# Altium schematic symbol library zynq.SchLib: 70 symbols
Pins are listed as number, name and electrical type; pins without a type are passive.

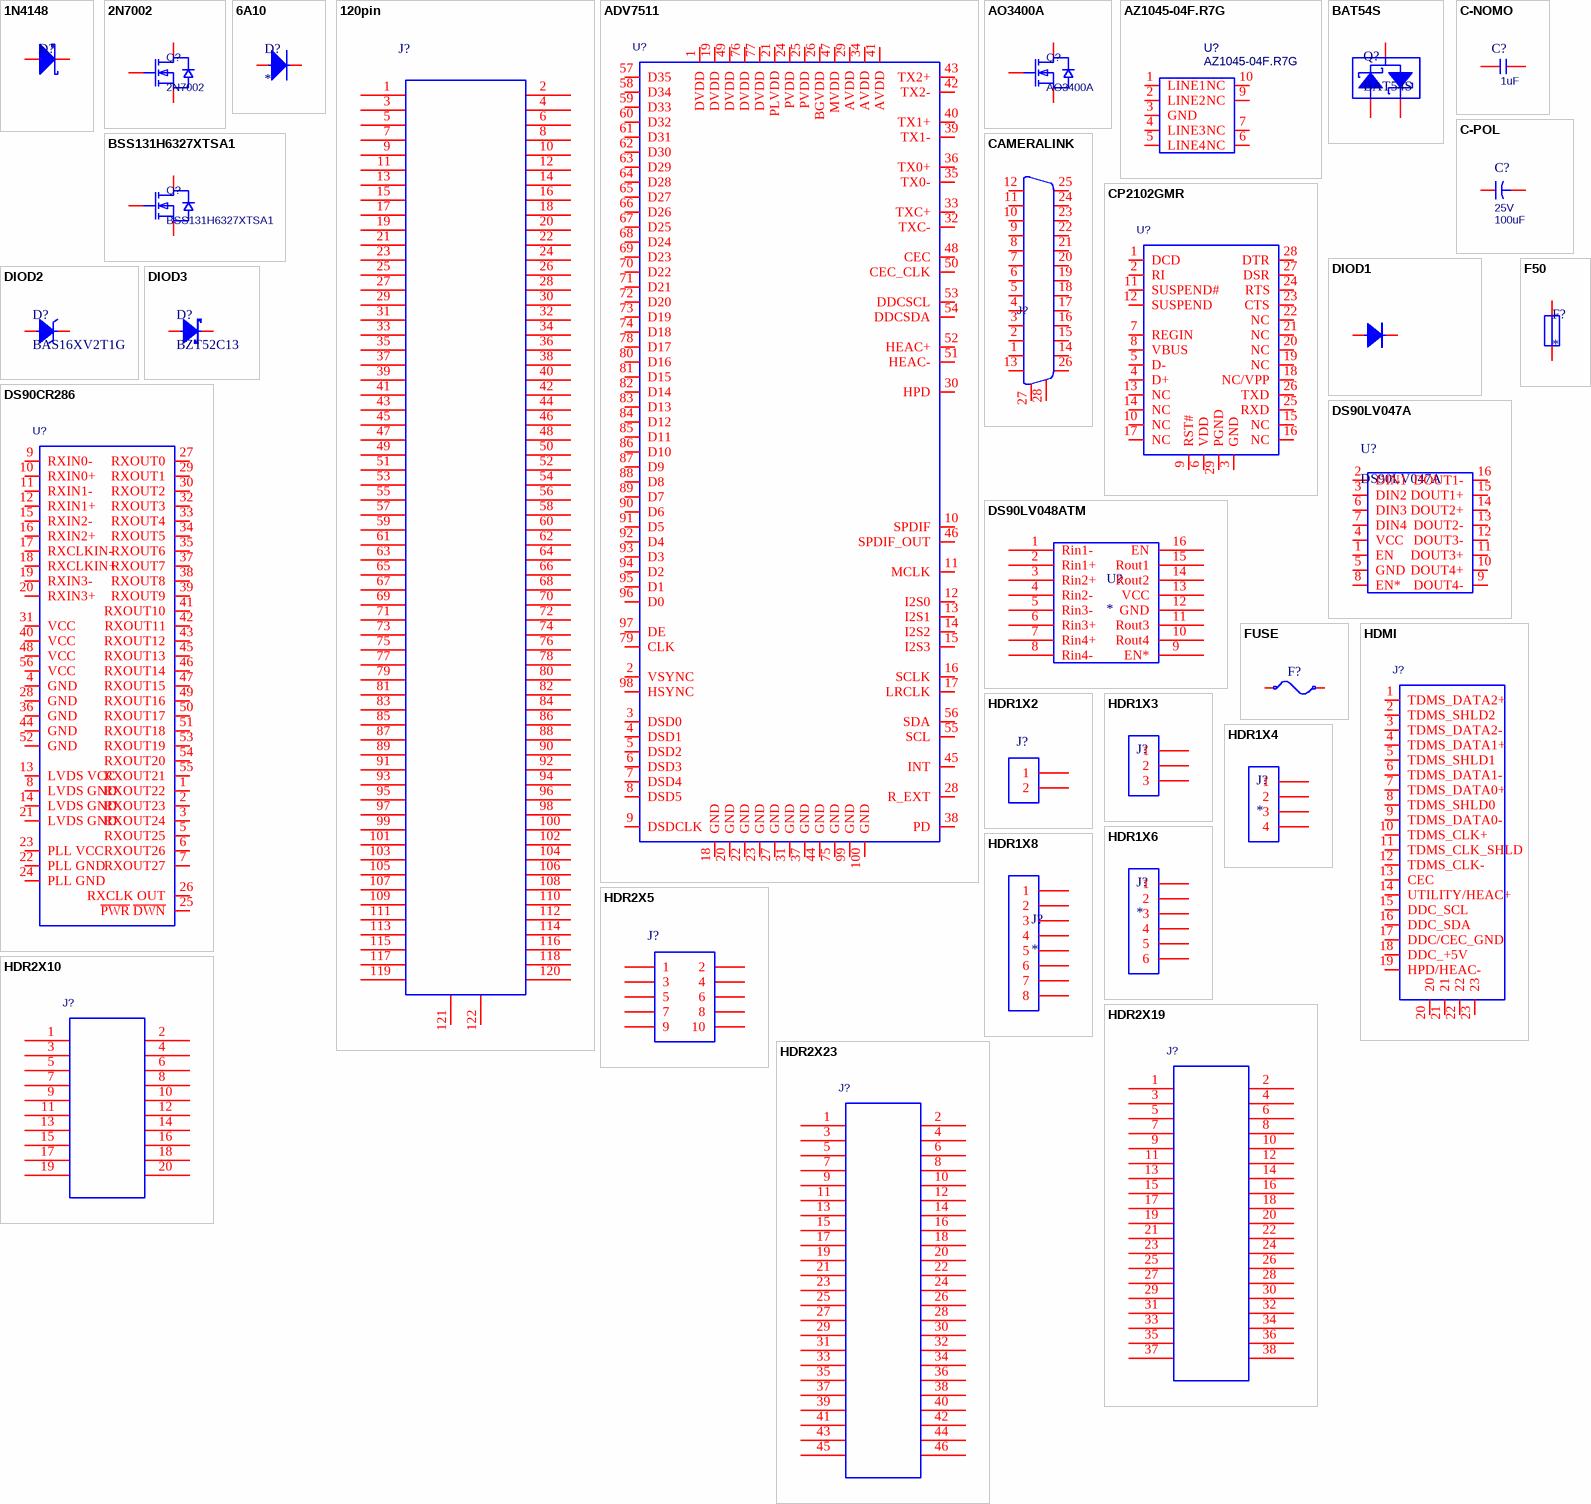
[diagram p0: symbols 1N4148 to HDR2X23]

## 1N4148
designator D?
Silicon RF Schottky Diode for Mixer Applications in the VHF/UHF Range; Note: Pin 2 is not connected and not drawn.; Published: 21-Mar-2003; LatestRevisionDate: 29-May-2009; LatestRevisionNote: IPC-7351 Footprint Added.; DatasheetVersion: Oct-1999; PackageVersion: Sep-2001; PackageReference: SOT-23; Publisher: Altium Limited; PackageDescription: 3-Pin SOT-23 Package 0.95 mm Pitch, 2.5 mm Lead Span; ComponentLink1Description: Manufacturer Link; ComponentLink1URL: http://www.infineon.com/; ComponentLink2Description: Datasheet; ComponentLink2URL: http://www.infineon.com/upload/Document/cmc_upload/documents/009/363/bat17series.pdf
footprint 1N4148 (稳压二极管，高速开关二极管)
pins: 1 A, 3 K

## 2N7002
designator Q?
Supplier 1: LCSC; Supplier Part Number 1: C8545
footprint 2N7002 (SOT23, 3-Leads, Body 2.90x2.45mm, Pitch 0.95mm, IPC High Density)
pins: D, G, S

## 6A10
designator D?
footprint 6A10 (整流二极管)
pins: 1, 2

## 120pin
designator J?
footprint AXK620337YG
pins: 1, 2, 3, 4, 5, 6, 7, 8, 9, 10, 11, 12, 13, 14, 15, 16, 17, 18, 19, 20, 21, 22, 23, 24, 25, 26, 27, 28, 29, 30, 31, 32, 33, 34, 35, 36, 37, 38, 39, 40, 41, 42, 43, 44, 45, 46, 47, 48, 49, 50, 51, 52, 53, 54, 55, 56, 57, 58, 59, 60, 61, 62, 63, 64, 65, 66, 67, 68, 69, 70, 71, 72, 73, 74, 75, 76, 77, 78, 79, 80, 81, 82, 83, 84, 85, 86, 87, 88, 89, 90, 91, 92, 93, 94, 95, 96, 97, 98, 99, 100, 101, 102, 103, 104, 105, 106, 107, 108, 109, 110, 111, 112, 113, 114, 115, 116, 117, 118, 119, 120, 121, 122

## ADV7511
designator U?  (value not drawn)
footprint ADV7511 (TSQFP, 100-Leads, Body 14.00x14.00mm, Pitch 0.50mm, IPC High Density)
pins: 1 DVDD, 2 VSYNC, 3 DSD0, 4 DSD1, 5 DSD2, 6 DSD3, 7 DSD4, 8 DSD5, 9 DSDCLK, 10 SPDIF, 11 MCLK, 12 I2S0, 13 I2S1, 14 I2S2, 15 I2S3, 16 SCLK, 17 LRCLK, 18 GND, 19 DVDD, 20 GND, 21 PLVDD, 22 GND, 23 GND, 24 PVDD, 25 PVDD, 26 BGVDD, 27 GND, 28 R_EXT, 29 AVDD, 30 HPD, 31 GND, 32 TXC-, 33 TXC+, 34 AVDD, 35 TX0-, 36 TX0+, 37 GND, 38 PD, 39 TX1-, 40 TX1+, 41 AVDD, 42 TX2-, 43 TX2+, 44 GND, 45 INT, 46 SPDIF_OUT, 47 MVDD, 48 CEC, 49 DVDD, 50 CEC_CLK, 51 HEAC-, 52 HEAC+, 53 DDCSCL, 54 DDCSDA, 55 SCL, 56 SDA, 57 D35, 58 D34, 59 D33, 60 D32, 61 D31, 62 D30, 63 D29, 64 D28, 65 D27, 66 D26, 67 D25, 68 D24, 69 D23, 70 D22, 71 D21, 72 D20, 73 D19, 74 D18, 75 GND, 76 DVDD, 77 DVDD, 78 D17, 79 CLK, 80 D16, 81 D15, 82 D14, 83 D13, 84 D12, 85 D11, 86 D10, 87 D9, 88 D8, 89 D7, 90 D6, 91 D5, 92 D4, 93 D3, 94 D2, 95 D1, 96 D0, 97 DE, 98 HSYNC, 99 GND, 100 GND

## AO3400A
designator Q?
Supplier 1: LCSC; Supplier Part Number 1: C20917
footprint AO3400A (SOT23, 3-Leads, Body 2.90x2.45mm, Pitch 0.95mm, IPC High Density)
pins: D, G, S

## AZ1045-04F.R7G
designator U?
BOM_Manufacturer: AMAZING; Contributor: LCSC; BOM_Paste Type: expand; BOM_Supplier: LCSC; BOM_Supplier Part: C356811; BOM_Manufacturer Part: AZ1045-04F.R7G; spicePre: D; spiceSymbolName: AZ1045-04F.R7G
footprint AZ1045
pins: 1 LINE1, 2 LINE2, 3 GND, 4 LINE3, 5 LINE4, 6 NC, 7 NC, 9 NC, 10 NC

## BAT54S
designator Q?
footprint SOT-23
pins: 1, 2, 3

## BSS131H6327XTSA1
designator Q?
Supplier 1: LCSC; Supplier Part Number 1: C151498
footprint BSS131H6327XTSA1 (SOT23, 3-Leads, Body 2.90x2.45mm, Pitch 0.95mm, IPC High Density)
pins: D, G, S

## C-NOMO
designator C?  value 1uF
voltage: 25V; precision: 5%
footprint C0603
footprint C0402
footprint C0805
pins: 1, 2

## C-POL
designator C?  value 100uF  voltage: 25V
footprint C7343 (CASE-E tan cap)
footprint C_18_21 (Aluminum Electrolytic Capacitor, Body 19.00x19.00x21.00mm, IPC High Density)
footprint C_10_10R2
pins: 1 S, 2

## CAMERALINK
designator J?  (value not drawn)
footprint CAMERALINK
pins: 1, 2, 3, 4, 5, 6, 7, 8, 9, 10, 11, 12, 13, 14, 15, 16, 17, 18, 19, 20, 21, 22, 23, 24, 25, 26, 27, 28

## CP2102GMR
designator U?  (value not drawn)
footprint CP2102GMR (QFN, 28-Leads, Body 5.00x5.00mm, Pitch 0.50mm, Thermal Pad 3.20x3.20mm, IPC High Density)
pins: 1 DCD, 2 RI, 3 GND, 4 D+, 5 D-, 6 VDD, 7 REGIN, 8 VBUS, 9 RST#, 10 NC, 11 SUSPEND#, 12 SUSPEND, 13 NC, 14 NC, 15 NC, 16 NC, 17 NC, 18 NC/VPP, 19 NC, 20 NC, 21 NC, 22 NC, 23 CTS, 24 RTS, 25 RXD, 26 TXD, 27 DSR, 28 DTR, 29 PGND

## DIOD1
designator D?, comment 1N4148
footprint 1N4148 (稳压二极管，高速开关二极管)
footprint DO-214AC
pins: 1, 2

## DIOD2
designator D?, comment BAS16XV2T1G
footprint SOD-523
footprint DO-214AC
pins: 1, 2

## DIOD3
designator D?, comment BZT52C13
footprint DO-214AC
footprint SOD-123
pins: 1, 2

## DS90CR286
designator U?  (value not drawn)
footprint DS90CR286
pins: 1 RXOUT22, 2 RXOUT23, 3 RXOUT24, 4 GND, 5 RXOUT25, 6 RXOUT26, 7 RXOUT27, 8 LVDS GND, 9 RXIN0-, 10 RXIN0+, 11 RXIN1-, 12 RXIN1+, 13 LVDS VCC, 14 LVDS GND, 15 RXIN2-, 16 RXIN2+, 17 RXCLKIN-, 18 RXCLKIN+, 19 RXIN3-, 20 RXIN3+, 21 LVDS GND, 22 PLL GND, 23 PLL VCC, 24 PLL GND, 25 ~{PWR} ~{DWN}, 26 RXCLK OUT, 27 RXOUT0, 28 GND, 29 RXOUT1, 30 RXOUT2, 31 VCC, 32 RXOUT3, 33 RXOUT4, 34 RXOUT5, 35 RXOUT6, 36 GND, 37 RXOUT7, 38 RXOUT8, 39 RXOUT9, 40 VCC, 41 RXOUT10, 42 RXOUT11, 43 RXOUT12, 44 GND, 45 RXOUT13, 46 RXOUT14, 47 RXOUT15, 48 VCC, 49 RXOUT16, 50 RXOUT17, 51 RXOUT18, 52 GND, 53 RXOUT19, 54 RXOUT20, 55 RXOUT21, 56 VCC

## DS90LV047A
designator U?
footprint DS90LV047
pins: 1 EN, 2 DIN1, 3 DIN2, 4 VCC, 5 GND, 6 DIN3, 7 DIN4, 8 EN*, 9 DOUT4-, 10 DOUT4+, 11 DOUT3+, 12 DOUT3-, 13 DOUT2-, 14 DOUT2+, 15 DOUT1+, 16 DOUT1-

## DS90LV048ATM
designator U?
footprint DS90LV048
pins: 1 Rin1-, 2 Rin1+, 3 Rin2+, 4 Rin2-, 5 Rin3-, 6 Rin3+, 7 Rin4+, 8 Rin4-, 9 EN*, 10 Rout4, 11 Rout3, 12 GND, 13 VCC, 14 Rout2, 15 Rout1, 16 EN

## F50
designator F?
footprint F-TH
footprint F-TH2
footprint F-TH3
pins: 1, 2

## FUSE
designator F?
footprint F1812 (FUSE_1812)
pins: 1, 2

## HDMI
designator J?  (value not drawn)
footprint HDMI_A_TYPE
pins: 1 TDMS_DATA2+, 2 TDMS_SHLD2, 3 TDMS_DATA2-, 4 TDMS_DATA1+, 5 TDMS_SHLD1, 6 TDMS_DATA1-, 7 TDMS_DATA0+, 8 TDMS_SHLD0, 9 TDMS_DATA0-, 10 TDMS_CLK+, 11 TDMS_CLK_SHLD, 12 TDMS_CLK-, 13 CEC, 14 UTILITY/HEAC+, 15 DDC_SCL, 16 DDC_SDA, 17 DDC/CEC_GND, 18 DDC_+5V, 19 HPD/HEAC-, 20, 21, 22, 23

## HDR1X2
designator J?
footprint HDR1X2 (Connector; Header; 5x2 Position)
footprint KF301-5.0-2P (5.0间距螺钉端子)
footprint XH-2A (XH2.54接线端子2P)
pins: 1, 2

## HDR1X3
designator J?
footprint HDR1X3 (Connector; Header; 5x2 Position)
footprint KF301-5.0-3P
pins: 1, 2, 3

## HDR1X4
designator J?
footprint KF301-5.0-4P
pins: 1, 2, 3, 4

## HDR1X6
designator J?
footprint KF301-5.0-6P
pins: 1, 2, 3, 4, 5, 6

## HDR1X8
designator J?
footprint HDR1X8
footprint KF15EDGK-3.81-8P
pins: 1, 2, 3, 4, 5, 6, 7, 8

## HDR2X5
designator J?
footprint HDR2X5 (Connector; Header; 5x2 Position)
footprint HDR2X5-NJ
pins: 1, 2, 3, 4, 5, 6, 7, 8, 9, 10

## HDR2X10
designator J?
footprint HDR2X10-NJ
pins: 1, 2, 3, 4, 5, 6, 7, 8, 9, 10, 11, 12, 13, 14, 15, 16, 17, 18, 19, 20

## HDR2X19
designator J?
footprint HDR2X19-1.27-SMD
pins: 1, 2, 3, 4, 5, 6, 7, 8, 9, 10, 11, 12, 13, 14, 15, 16, 17, 18, 19, 20, 21, 22, 23, 24, 25, 26, 27, 28, 29, 30, 31, 32, 33, 34, 35, 36, 37, 38

## HDR2X23
designator J?
footprint HDR2X23-1.27-SMD
pins: 1, 2, 3, 4, 5, 6, 7, 8, 9, 10, 11, 12, 13, 14, 15, 16, 17, 18, 19, 20, 21, 22, 23, 24, 25, 26, 27, 28, 29, 30, 31, 32, 33, 34, 35, 36, 37, 38, 39, 40, 41, 42, 43, 44, 45, 46

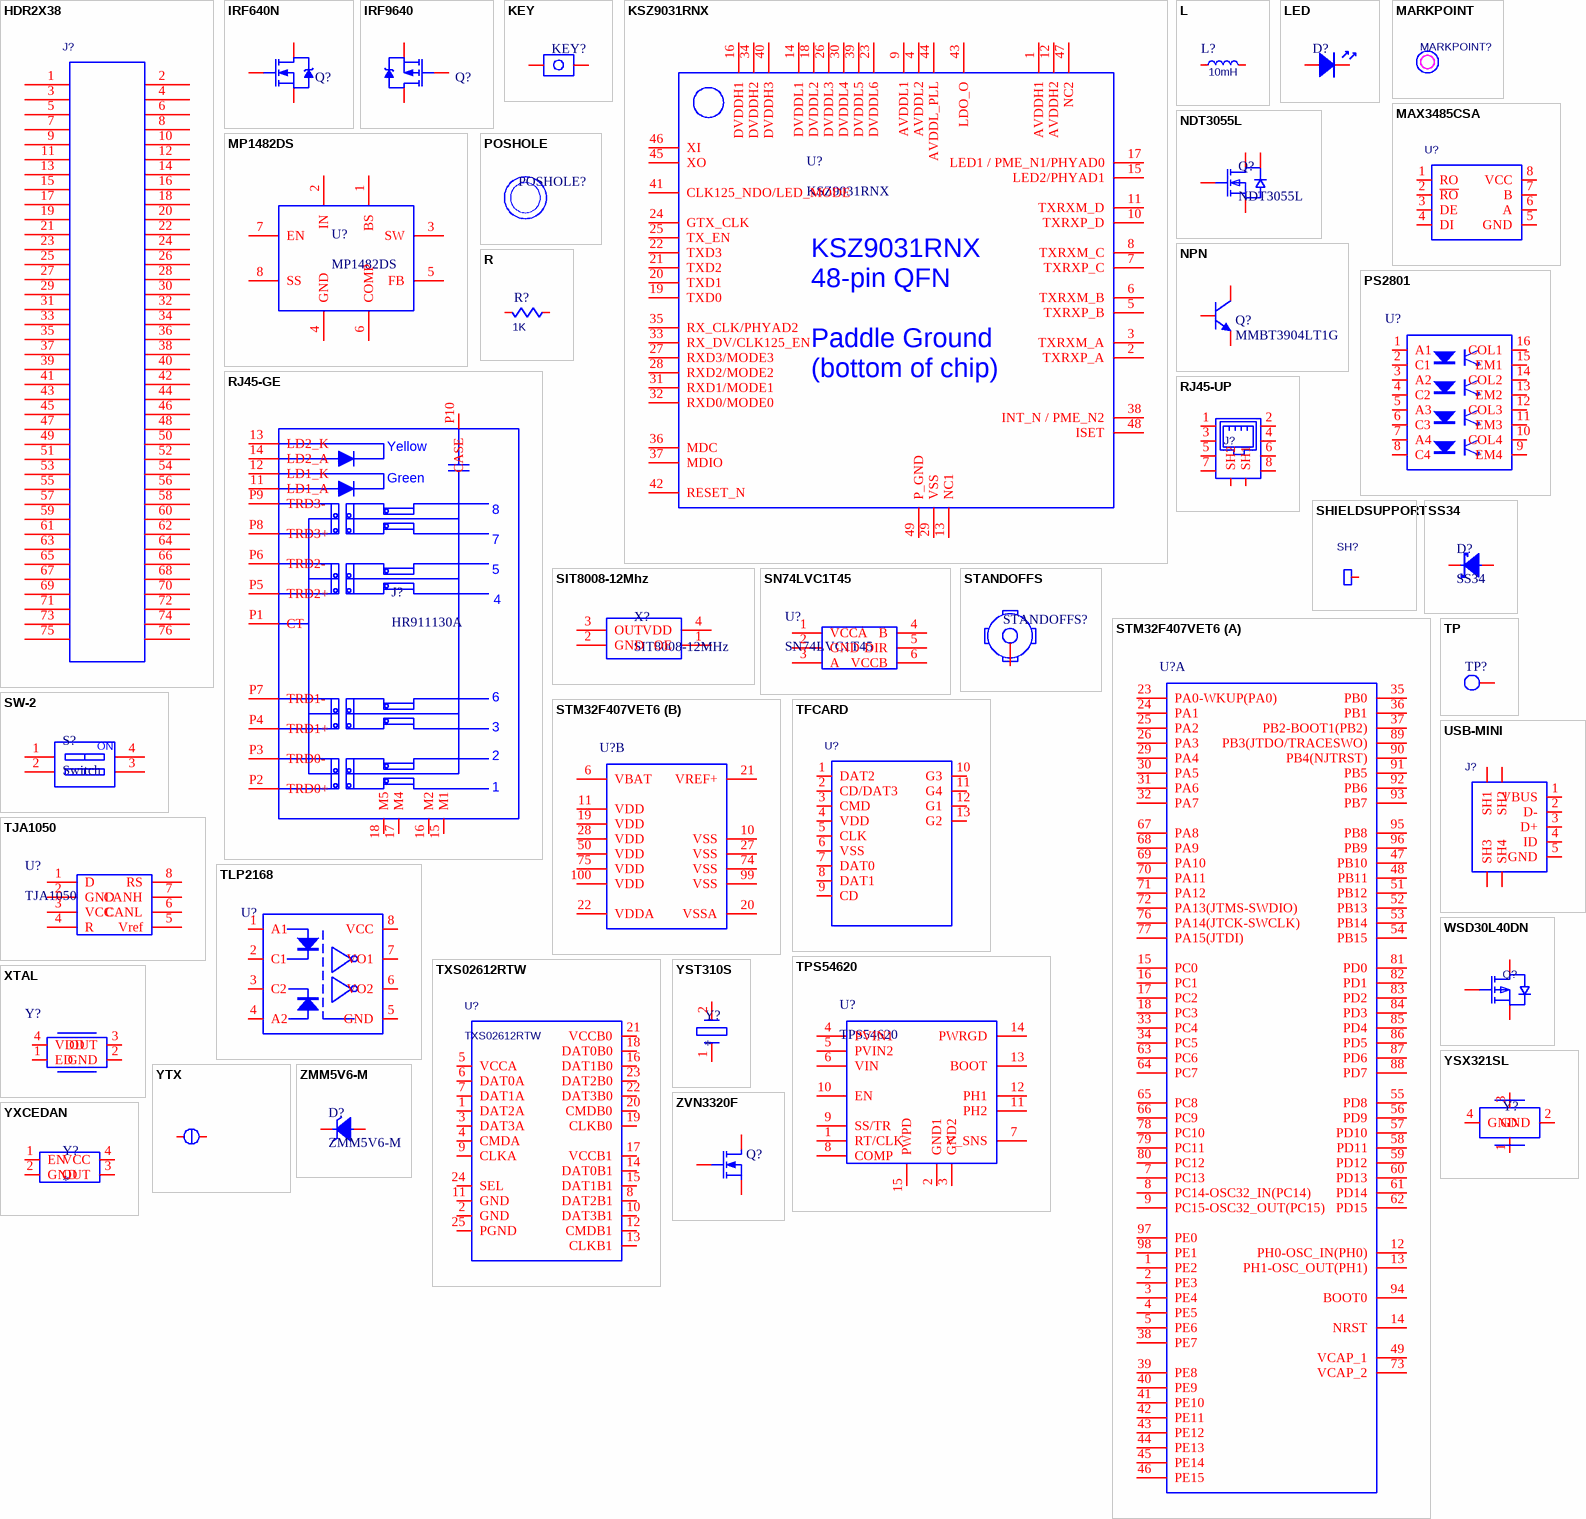
[diagram p1: symbols HDR2X38 to ZVN3320F]

## HDR2X38
designator J?
footprint HDR2X38-1.27-SMD
pins: 1, 2, 3, 4, 5, 6, 7, 8, 9, 10, 11, 12, 13, 14, 15, 16, 17, 18, 19, 20, 21, 22, 23, 24, 25, 26, 27, 28, 29, 30, 31, 32, 33, 34, 35, 36, 37, 38, 39, 40, 41, 42, 43, 44, 45, 46, 47, 48, 49, 50, 51, 52, 53, 54, 55, 56, 57, 58, 59, 60, 61, 62, 63, 64, 65, 66, 67, 68, 69, 70, 71, 72, 73, 74, 75, 76

## IRF640N
designator Q?
N-Channel Power MOSFET; Note: Pin 2 is electrically connected to pin 4.; Published: 8-Jun-2000; LatestRevisionDate: 17-Jul-2002; LatestRevisionNote: Re-released for DXP Platform.; DatasheetVersion: PD-9.814; PackageVersion: Feb-1997; PackageReference: TO-220AB; Publisher: Altium Limited; PackageDescription: TO, Thru-Hole, Vertical, Heatsink Mounted; 3 In-Line Leads; Pitch 2.54 mm; ComponentLink1Description: Manufacturer Link; ComponentLink1URL: http://www.irf.com/
footprint TO-220AB (TO, Thru-Hole, Vertical, Heatsink Mounted; 3 In-Line Leads; Pitch 2.54 mm)
pins: 1 G, 2 D, 3 S

## IRF9640
designator Q?
P-Channel Power MOSFET; Note: Pin 4 not drawn and electrically connected to Pin 2.; Published: 8-Jun-2000; LatestRevisionDate: 17-Jul-2002; LatestRevisionNote: Re-released for DXP Platform.; DatasheetVersion: PD-9.390D; PackageVersion: Feb-1997; PackageReference: TO-220AB; Publisher: Altium Limited; PackageDescription: TO, Thru-Hole, Vertical, Heatsink Mounted; 3 In-Line Leads; Pitch 2.54 mm; ComponentLink1Description: Manufacturer Link; ComponentLink1URL: http://www.irf.com/
footprint TO-220AB (TO, Thru-Hole, Vertical, Heatsink Mounted; 3 In-Line Leads; Pitch 2.54 mm)
simulation model IRF9510 (Spice Subcircuit)
pins: 1 G, 2 D, 3 S

## KEY
designator KEY?
footprint KEY735SO
pins: 1, 2

## KSZ9031RNX
designator U?
footprint KSZ9031 (QFN, 48-Leads, Body 7.00x7.00mm, Pitch 0.50mm, Thermal Pad 5.10x5.10mm, IPC High Density)
pins: 1 AVDDH1, 2 TXRXP_A, 3 TXRXM_A, 4 AVDDL2, 5 TXRXP_B, 6 TXRXM_B, 7 TXRXP_C, 8 TXRXM_C, 9 AVDDL1, 10 TXRXP_D, 11 TXRXM_D, 12 AVDDH2, 13 NC1, 14 DVDDL1, 15 LED2/PHYAD1, 16 DVDDH1, 17 LED1 / PME_N1/PHYAD0, 18 DVDDL2, 19 TXD0, 20 TXD1, 21 TXD2, 22 TXD3, 23 DVDDL6, 24 GTX_CLK, 25 TX_EN, 26 DVDDL3, 27 RXD3/MODE3, 28 RXD2/MODE2, 29 VSS, 30 DVDDL4, 31 RXD1/MODE1, 32 RXD0/MODE0, 33 RX_DV/CLK125_EN, 34 DVDDH2, 35 RX_CLK/PHYAD2, 36 MDC, 37 MDIO, 38 INT_N / PME_N2, 39 DVDDL5, 40 DVDDH3, 41 CLK125_NDO/LED_MODE, 42 RESET_N, 43 LDO_O, 44 AVDDL_PLL, 45 XO, 46 XI, 47 NC2, 48 ISET, 49 P_GND
text: KSZ9031RNX / 48-pin QFN / Paddle Ground / (bottom of chip)

## L
designator L?  value 10mH
Code_IEC: 1005; Published: 8-Jun-2000; LatestRevisionDate: 29-May-2009; LatestRevisionNote: IPC-7351 Footprint Added.; PackageReference: 0402-A; Publisher: Altium Limited; PackageDescription: Chip Inductor; Code_JEITA: 0402
footprint L0603
footprint L0805 (C0805)
footprint FXL0624
pins: 1, 2

## LED
designator D?
footprint LED0603 (Chip LED, 2-Leads, Body 1.60x0.80mm, IPC High Density)
pins: 1, 2

## MARKPOINT
designator MARKPOINT?
footprint MARKPOINT-1.0

## MAX3485CSA
designator U?  (value not drawn)
footprint MAX3485CSA
pins: 1 RO, 2 ~{RO}, 3 DE, 4 DI, 5 GND, 6 A, 7 B, 8 VCC

## MP1482DS
designator U?
footprint MP1482
pins: 1 BS, 2 IN, 3 SW, 4 GND, 5 FB, 6 COMP, 7 EN, 8 SS

## NDT3055L
designator Q?
footprint SOT-223 (SOT223, 4-Leads, Body 6.50x7.00mm (avg), Pitch 2.30mm, IPC High Density)
pins: 1 G, 2 D, 3 S, 4 D

## NPN
designator Q?, comment MMBT3904LT1G
footprint SOT-23
pins: 1 B, 2 E, 3 C

## POSHOLE
designator POSHOLE?
footprint POSHOLE-3.2 (3.2mm hole)

## PS2801
designator U?  (value not drawn)
footprint PS2801 (SOP, 16-Leads, Body 10.28x4.40mm, Pitch 1.27mm, IPC High Density)
pins: 1 A1, 2 C1, 3 A2, 4 C2, 5 A3, 6 C3, 7 A4, 8 C4, 9 EM4, 10 COL4, 11 EM3, 12 COL3, 13 EM2, 14 COL2, 15 EM1, 16 COL1

## R
designator R?  value 1K
precision: 1%
footprint R0603
footprint R0402
footprint R1812
footprint R0805 (Chip Resistor, 2-Leads, Body 2.00x1.25mm, IPC High Density)
footprint R2512 (Chip Resistor, 2-Leads, Body 6.35x3.20mm, IPC High Density)
footprint R1206 (Chip Resistor, 2-Leads, Body 3.10x1.58mm, IPC High Density)
pins: 1, 2

## RJ45-GE
designator J?, comment HR911130A
footprint RJ45-GE
pins: 11 LD1_A, 12 LD1_K, 13 LD2_K, 14 LD2_A, 15 M1, 16 M2, 17 M4, 18 M5, P1 CT, P2 TRD0+, P3 TRD0-, P4 TRD1+, P5 TRD2+, P6 TRD2-, P7 TRD1-, P8 TRD3+, P9 TRD3-, P10 CASE
text: Yellow; Green; 8; 7; 5; 4; 6; 3; 2; 1

## RJ45-UP
designator J?, comment GE-8  (value not drawn)
footprint RJ45-UP
pins: 1, 2, 3, 4, 5, 6, 7, 8, SH1, SH2

## SHIELDSUPPORT
designator SH?  (value not drawn)
footprint SHIELDSUPPORT1 (YS0073A1 L4.4xW0.8xH0.8 0.2)
pins: SH

## SIT8008-12Mhz
designator X?, comment SIT8008-12MHz
footprint OSC3225
pins: 1 OE, 2 GND, 3 OUT, 4 VDD

## SN74LVC1T45
designator U?
footprint SN74LVC1T45
pins: 1 VCCA, 2 GND, 3 A, 4 B, 5 DIR, 6 VCCB

## SS34
designator D?
Supplier 1: LCSC; Supplier Part Number 1: C8678
footprint SS34 (Molded Diode, 2-Leads, Body 4.25x2.67mm, IPC High Density)
pins: 1, 2

## STANDOFFS
designator STANDOFFS?
footprint STANDOFFS-5-2.5 (外径5 台阶外径2.5)
pins: 0

## STM32F407VET6
designator U?
ARM Cortex-M4 32-bit MCU+FPU, 210 DMIPS, 512 kB Flash, 192 kB Internal RAM, 82 I/Os, 100-pin LQFP, -40 to 85 degC, Tray; Manufacturer: STMicroelectronics; PartNumber: STM32F407VET6; D/A Converter: 2x12-bit; FLASH Size (Prog) (kB): 512; I/Os (High Current): 82; Internal RAM Size (kB): 192; Operating Frequency(F) (Processor speed) (MHz): 168; Supply Voltage(Vcc) max (V): 3.6; Supply Voltage(Vcc) min (V): 1.8; DatasheetVersion: Rev. 4; PackageVersion: Rev. 1, 06/2013; PackageReference: LQFP100; PackageDescription: 100-Pin Low Profile Quad Flat Package, 14 x 14 mm Body, 0.5 mm Pitch; Supplier 1: Digi-Key; Supplier Part Number 1: 497-12075-ND; Supplier 2: Farnell; Supplier Part Number 2: 2064367; Supplier 3: Newark; Supplier Part Number 3: 73T2332; Supplier 4: Mouser; Supplier Part Number 4: 511-STM32F407VET6; Core: ARM Cortex-M4; Packing: Tray; Mounting Technology: Surface Mount; ComponentLink1Description: Manufacturer URL; ComponentLink1URL: http://www.st.com/web/en/home.html; ComponentLink2Description: Datasheet; ComponentLink2URL: http://www.st.com/st-web-ui/static/active/en/resource/technical/document/datasheet/DM00037051.pdf; ComponentLink3Description: Package Specification; ComponentLink3URL: http://www.st.com/st-web-ui/static/active/en/resource/technical/document/data_brief/DM00071938.pdf
footprint STM32F407VET6
part A pins: 1 PE2 "PE2/TRACECLK/FSMC_A23/ETH_MII_TXD3/EVENTOUT", 2 PE3 "PE3/TRACED0/FSMC_A19/EVENTOUT", 3 PE4 "PE4/TRACED1/FSMC_A20/DCMI_D4/EVENTOUT", 4 PE5 "PE5/TRACED2/FSMC_A21/TIM9_CH1/DCMI_D6/EVENTOUT", 5 PE6 "PE6/TRACED3/FSMC_A22/TIM9_CH2/DCMI_D7/EVENTOUT", 7 PC13 "PC13/EVENTOUT/RTC_OUT,RTC_TAMP1,RTC_TS", 8 PC14-OSC32_IN(PC14) "PC14-OSC32_IN(PC14)/EVENTOUT/OSC32_IN", 9 PC15-OSC32_OUT(PC15) "PC15-OSC32_OUT(PC15)/EVENTOUT/OSC32_OUT", 12 PH0-OSC_IN(PH0) "PH0-OSC_IN(PH0)/EVENTOUT/OSC_IN", 13 PH1-OSC_OUT(PH1) "PH1-OSC_OUT(PH1)/EVENTOUT/OSC_OUT", 14 NRST, 15 PC0 "PC0/OTG_HS_ULPI_STP/EVENTOUT/ADC123_IN10", 16 PC1 "PC1/ETH_MDC/EVENTOUT/ADC123_IN11", 17 PC2 "PC2/SPI2_MISO/OTG_HS_ULPI_DIR/ETH_MII_TXD2/I2S2ext_SD/EVENTOUT/ADC123_IN12", 18 PC3 "PC3/SPI2_MOSI/I2S2_SD/OTG_HS_ULPI_NXT/ETH_MII_TX_CLK/EVENTOUT/ADC123_IN13", 23 PA0-WKUP(PA0) "PA0-WKUP(PA0)/USART2_CTS/UART4_TX/ETH_MII_CRS/TIM2_CH1_ETR/TIM5_CH1/TIM8_ETR/EVENTOUT/ADC123_IN0/WKUP", 24 PA1 "PA1/USART2_RTS/UART4_RX/ETH_RMII_REF_CLK/ETH_MII_RX_CLK/TIM5_CH2/TIM2_CH2/EVENTOUT/ADC123_IN1", 25 PA2 "PA2/USART2_TX/TIM5_CH3/TIM9_CH1/TIM2_CH3/ETH_MDIO/EVENTOUT/ADC123_IN2", 26 PA3 "PA3/USART2_RX/TIM5_CH4/TIM9_CH2/TIM2_CH4/OTG_HS_ULPI_D0/ETH_MII_COL/EVENTOUT/ADC123_IN3", 29 PA4 "PA4/SPI1_NSS/SPI3_NSS/USART2_CK/DCMI_HSYNC/OTG_HS_SOF/I2S3_WS/EVENTOUT/ADC12_IN4/DAC_OUT1", 30 PA5 "PA5/SPI1_SCK/OTG_HS_ULPI_CK/TIM2_CH1_ETR/TIM8_CH1N/EVENTOUT/ADC12_IN5/DAC_OUT2", 31 PA6 "PA6/SPI1_MISO/TIM8_BKIN/TIM13_CH1/DCMI_PIXCLK/TIM3_CH1/TIM1_BKIN/EVENTOUT/ADC12_IN6", 32 PA7 "PA7/SPI1_MOSI/TIM8_CH1N/TIM14_CH1/TIM3_CH2/ETH_MII_RX_DV/TIM1_CH1N/ETH_RMII_CRS_DV/EVENTOUT/ADC12_IN7", 33 PC4 "PC4/ETH_RMII_RX_D0/ETH_MII_RX_D0/EVENTOUT/ADC12_IN14", 34 PC5 "PC5/ETH_RMII_RX_D1/ETH_MII_RX_D1/EVENTOUT/ADC12_IN15", 35 PB0 "PB0/TIM3_CH3/TIM8_CH2N/OTG_HS_ULPI_D1/ETH_MII_RXD2/TIM1_CH2N/EVENTOUT/ADC12_IN8", 36 PB1 "PB1/TIM3_CH4/TIM8_CH3N/OTG_HS_ULPI_D2/ETH_MII_RXD3/TIM1_CH3N/EVENTOUT/ADC12_IN9", 37 PB2-BOOT1(PB2) "PB2-BOOT1(PB2)/EVENTOUT", 38 PE7 "PE7/FSMC_D4/TIM1_ETR/EVENTOUT", 39 PE8 "PE8/FSMC_D5/TIM1_CH1N/EVENTOUT", 40 PE9 "PE9/FSMC_D6/TIM1_CH1/EVENTOUT", 41 PE10 "PE10/FSMC_D7/TIM1_CH2N/EVENTOUT", 42 PE11 "PE11/FSMC_D8/TIM1_CH2/EVENTOUT", 43 PE12 "PE12/FSMC_D9/TIM1_CH3N/EVENTOUT", 44 PE13 "PE13/FSMC_D10/TIM1_CH3/EVENTOUT", 45 PE14 "PE14/FSMC_D11/TIM1_CH4/EVENTOUT", 46 PE15 "PE15/FSMC_D12/TIM1_BKIN/EVENTOUT", 47 PB10 "PB10/SPI2_SCK/I2S2_CK/I2C2_SCL/USART3_TX/OTG_HS_ULPI_D3/ETH_MII_RX_ER/TIM2_CH3/EVENTOUT", 48 PB11 "PB11/I2C2_SDA/USART3_RX/OTG_HS_ULPI_D4/ETH_RMII_TX_EN/ETH_MII_TX_EN/TIM2_CH4/EVENTOUT", 49 VCAP_1, 51 PB12 "PB12/SPI2_NSS/I2S2_WS/I2C2_SMBA/USART3_CK/TIM1_BKIN/CAN2_RX/OTG_HS_ULPI_D5/ETH_RMII_TXD0/ETH_MII_TXD0/OTG_HS_ID/EVENTOUT", 52 PB13 "PB13/SPI2_SCK/I2S2_CK/USART3_CTS/TIM1_CH1N/CAN2_TX/OTG_HS_ULPI_D6/ETH_RMII_TXD1/ETH_MII_TXD1/EVENTOUT/OTG_HS_VBUS", 53 PB14 "PB14/SPI2_MISO/TIM1_CH2N/TIM12_CH1/OTG_HS_DM/USART3_RTS/TIM8_CH2N/I2S2ext_SD/EVENTOUT", 54 PB15 "PB15/SPI2_MOSI/I2S2_SD/TIM1_CH3N/TIM8_CH3N/TIM12_CH2/OTG_HS_DP/EVENTOUT/RTC_REFIN", 55 PD8 "PD8/FSMC_D13/USART3_TX/EVENTOUT", 56 PD9 "PD9/FSMC_D14/USART3_RX/EVENTOUT", 57 PD10 "PD10/FSMC_D15/USART3_CK/EVENTOUT", 58 PD11 "PD11/FSMC_CLE/FSMC_A16/USART3_CTS/EVENTOUT", 59 PD12 "PD12/FSMC_ALE/FSMC_A17/TIM4_CH1/USART3_RTS/EVENTOUT", 60 PD13 "PD13/FSMC_A18/TIM4_CH2/EVENTOUT", 61 PD14 "PD14/FSMC_D0/TIM4_CH3/EVENTOUT", 62 PD15 "PD15/FSMC_D1/TIM4_CH4/EVENTOUT", 63 PC6 "PC6/I2S2_MCK/TIM8_CH1/SDIO_D6/USART6_TX/DCMI_D0/TIM3_CH1/EVENTOUT", 64 PC7 "PC7/I2S3_MCK/TIM8_CH2/SDIO_D7/USART6_RX/DCMI_D1/TIM3_CH2/EVENTOUT", 65 PC8 "PC8/TIM8_CH3/SDIO_D0/TIM3_CH3/USART6_CK/DCMI_D2/EVENTOUT", 66 PC9 "PC9/I2S_CKIN/MCO2/TIM8_CH4/SDIO_D1/I2C3_SDA/DCMI_D3/TIM3_CH4/EVENTOUT", 67 PA8 "PA8/MCO1/USART1_CK/TIM1_CH1/I2C3_SCL/OTG_FS_SOF/EVENTOUT", 68 PA9 "PA9/USART1_TX/TIM1_CH2/I2C3_SMBA/DCMI_D0/EVENTOUT/OTG_FS_VBUS", 69 PA10 "PA10/USART1_RX/TIM1_CH3/OTG_FS_ID/DCMI_D1/EVENTOUT", 70 PA11 "PA11/USART1_CTS/CAN1_RX/TIM1_CH4/OTG_FS_DM/EVENTOUT", 71 PA12 "PA12/USART1_RTS/CAN1_TX/TIM1_ETR/OTG_FS_DP/EVENTOUT", 72 PA13(JTMS-SWDIO) "PA13(JTMS-SWDIO)/JTMS-SWDIO/EVENTOUT", 73 VCAP_2, 76 PA14(JTCK-SWCLK) "PA14(JTCK-SWCLK)/JTCK-SWCLK/EVENTOUT", 77 PA15(JTDI) "PA15(JTDI)/JTDI/SPI3_NSS/I2S3_WS/TIM2_CH1_ETR/SPI1_NSS/EVENTOUT", 78 PC10 "PC10/SPI3_SCK/I2S3_CK/UART4_TX/SDIO_D2/DCMI_D8/USART3_TX/EVENTOUT", 79 PC11 "PC11/UART4_RX/SPI3_MISO/SDIO_D3/DCMI_D4/USART3_RX/I2S3ext_SD/EVENTOUT", 80 PC12 "PC12/UART5_TX/SDIO_CK/DCMI_D9/SPI3_MOSI/I2S3_SD/USART3_CK/EVENTOUT", 81 PD0 "PD0/FSMC_D2/CAN1_RX/EVENTOUT", 82 PD1 "PD1/FSMC_D3/CAN1_TX/EVENTOUT", 83 PD2 "PD2/TIM3_ETR/UART5_RX/SDIO_CMD/DCMI_D11/EVENTOUT", 84 PD3 "PD3/FSMC_CLK/USART2_CTS/EVENTOUT", 85 PD4 "PD4/FSMC_NOE/USART2_RTS/EVENTOUT", 86 PD5 "PD5/FSMC_NWE/USART2_TX/EVENTOUT", 87 PD6 "PD6/FSMC_NWAIT/USART2_RX/EVENTOUT", 88 PD7 "PD7/USART2_CK/FSMC_NE1/FSMC_NCE2/EVENTOUT", 89 PB3(JTDO/TRACESWO) "PB3(JTDO/TRACESWO)/JTDO/TRACESWO/SPI3_SCK/I2S3_CK/TIM2_CH2/SPI1_SCK/EVENTOUT", 90 PB4(NJTRST) "PB4(NJTRST)/NJTRST/SPI3_MISO/TIM3_CH1/SPI1_MISO/I2S3ext_SD/EVENTOUT", 91 PB5 "PB5/I2C1_SMBA/CAN2_RX/OTG_HS_ULPI_D7/ETH_PPS_OUT/TIM3_CH2/SPI1_MOSI/SPI3_MOSI/DCMI_D10/I2S3_SD/EVENTOUT", 92 PB6 "PB6/I2C1_SCL/TIM4_CH1/CAN2_TX/DCMI_D5/USART1_TX/EVENTOUT", 93 PB7 "PB7/I2C1_SDA/FSMC_NL/DCMI_VSYNC/USART1_RX/TIM4_CH2/EVENTOUT", 94 BOOT0 "BOOT0/VPP", 95 PB8 "PB8/TIM4_CH3/SDIO_D4/TIM10_CH1/DCMI_D6/ETH_MII_TXD3/I2C1_SCL/CAN1_RX/EVENTOUT", 96 PB9 "PB9/SPI2_NSS/I2S2_WS/TIM4_CH4/TIM11_CH1/SDIO_D5/DCMI_D7/I2C1_SDA/CAN1_TX/EVENTOUT", 97 PE0 "PE0/TIM4_ETR/FSMC_NBL0/DCMI_D2/EVENTOUT", 98 PE1 "PE1/FSMC_NBL1/DCMI_D3/EVENTOUT"
part B pins: 6 VBAT, 10 VSS, 11 VDD, 19 VDD, 20 VSSA, 21 VREF+, 22 VDDA, 27 VSS, 28 VDD, 50 VDD, 74 VSS, 75 VDD, 99 VSS, 100 VDD

## SW-2
designator S?, comment Switch
footprint DHN02VTR (2 switch)
pins: 1 A1, 2 A2, 3 B2, 4 B1
text: ON

## TFCARD
designator U?  (value not drawn)
footprint TFCARD
pins: 1 DAT2, 2 CD/DAT3, 3 CMD, 4 VDD, 5 CLK, 6 VSS, 7 DAT0, 8 DAT1, 9 CD, 10 G3, 11 G4, 12 G1, 13 G2

## TJA1050
designator U?
footprint TJA1050
pins: 1 D, 2 GND, 3 VCC, 4 R, 5 Vref, 6 CANL, 7 CANH, 8 RS

## TLP2168
designator U?  (value not drawn)
footprint TLP2168
pins: 1 A1, 2 C1, 3 C2, 4 A2, 5 GND, 6 VO2, 7 VO1, 8 VCC

## TP
designator TP?
footprint TP
pins: 0

## TPS54620
designator U?
footprint TPS54620 (VQFN_3_5)
pins: 1 RT/CLK, 2 GND1, 3 GND2, 4 PVIN1, 5 PVIN2, 6 VIN, 7 V_SNS, 8 COMP, 9 SS/TR, 10 EN, 11 PH2, 12 PH1, 13 BOOT, 14 PWRGD, 15 PWPD

## TXS02612RTW
designator U?
footprint TXS02612TWR (PQFN, 24-Leads, Body 4.00x4.00mm, Pitch 0.50mm, Thermal Pad 2.45x2.45mm, IPC High Density)
pins: 1 DAT2A, 2 GND, 3 DAT3A, 4 CMDA, 5 VCCA, 6 DAT0A, 7 DAT1A, 8 DAT2B1, 9 CLKA, 10 DAT3B1, 11 GND, 12 CMDB1, 13 CLKB1, 14 DAT0B1, 15 DAT1B1, 16 DAT1B0, 17 VCCB1, 18 DAT0B0, 19 CLKB0, 20 CMDB0, 21 VCCB0, 22 DAT3B0, 23 DAT2B0, 24 SEL, 25 PGND

## USB-MINI
designator J?  (value not drawn)
footprint USB-MINI
pins: 1 VBUS, 2 D-, 3 D+, 4 ID, 5 GND, SH1, SH2, SH3, SH4

## WSD30L40DN
designator Q?  (value not drawn)
Supplier 1: LCSC; Supplier Part Number 1: C148390
footprint WSD30L40DN
pins: D, G, S

## XTAL
designator Y?
frequency: 25MHZ
footprint OSC3225
pins: 1 ED, 2 GND, 3 OUT, 4 VDD

## YST310S
designator Y?
footprint OSC3215
pins: 1, 2

## YSX321SL
designator Y?
footprint OSC3225
pins: 1, 2 GND, 3, 4 GND

## YTX
designator YTX?
footprint YTX
pins: 1, 2

## YXCEDAN
designator Y?
pins: 1 EN, 2 GND, 3 OUT, 4 VCC

## ZMM5V6-M
designator D?
Supplier 1: LCSC; Supplier Part Number 1: C8062
footprint ZMM5V6-M (MELF Diode, 2-Leads, Body 3.50x1.45mm, IPC High Density)
pins: 1, 2

## ZVN3320F
designator Q?
N-Channel MOSFET; Published: 8-Jun-2000; LatestRevisionDate: 17-Jul-2002; LatestRevisionNote: Re-released for DXP Platform.; PackageVersion: 1995/1996; PackageReference: E3; Publisher: Altium Limited; PackageDescription: TO, Flat Index; 3 In-Line, Axial Leads; Body Dia. 4.6mm; Lead Dia. 0.5 mm (max)
footprint ZVN3320F (MOSFET-N)
pins: 1 D, 2 G, 3 S